# Altium schematic symbol library 7 segment library.SchLib: 1 symbol
Pins are listed as number, name and electrical type; pins without a type are passive.

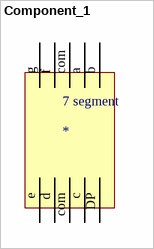
[diagram p0: symbol Component_1]

## Component_1
designator 7 segment
footprint 7 segment
pins: a, b, c, com, com, d, DP, e, f, g